# Altium schematic symbol library LCMXO2-1200HC-4TG144.SchLib: 1 symbol
Pins are listed as number, name and electrical type; pins without a type are passive.

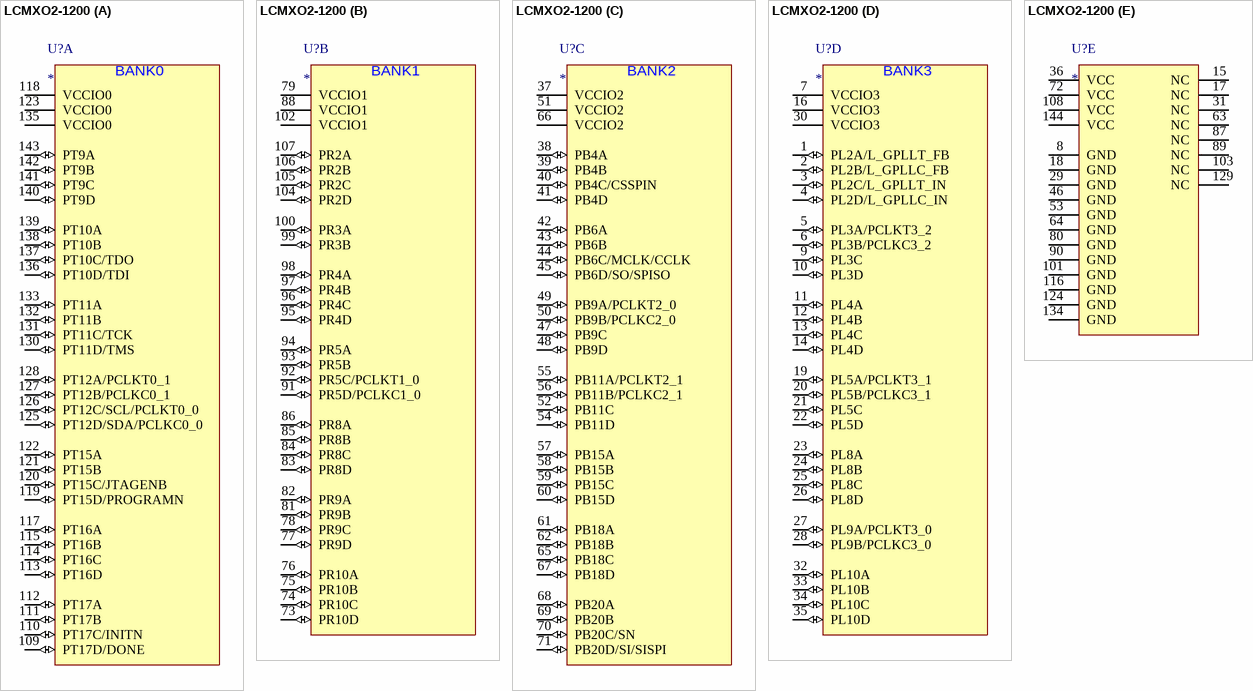
[diagram p0: symbol LCMXO2-1200]

## LCMXO2-1200
designator U?
part A pins: 109 PT17D/DONE (io), 110 PT17C/INITN (io), 111 PT17B (io), 112 PT17A (io), 113 PT16D (io), 114 PT16C (io), 115 PT16B (io), 117 PT16A (io), 118 VCCIO0 (power), 119 PT15D/PROGRAMN (io), 120 PT15C/JTAGENB (io), 121 PT15B (io), 122 PT15A (io), 123 VCCIO0 (power), 125 PT12D/SDA/PCLKC0_0 (io), 126 PT12C/SCL/PCLKT0_0 (io), 127 PT12B/PCLKC0_1 (io), 128 PT12A/PCLKT0_1 (io), 130 PT11D/TMS (io), 131 PT11C/TCK (io), 132 PT11B (io), 133 PT11A (io), 135 VCCIO0 (power), 136 PT10D/TDI (io), 137 PT10C/TDO (io), 138 PT10B (io), 139 PT10A (io), 140 PT9D (io), 141 PT9C (io), 142 PT9B (io), 143 PT9A (io)
part B pins: 73 PR10D (io), 74 PR10C (io), 75 PR10B (io), 76 PR10A (io), 77 PR9D (io), 78 PR9C (io), 79 VCCIO1 (power), 81 PR9B (io), 82 PR9A (io), 83 PR8D (io), 84 PR8C (io), 85 PR8B (io), 86 PR8A (io), 88 VCCIO1 (power), 91 PR5D/PCLKC1_0 (io), 92 PR5C/PCLKT1_0 (io), 93 PR5B (io), 94 PR5A (io), 95 PR4D (io), 96 PR4C (io), 97 PR4B (io), 98 PR4A (io), 99 PR3B (io), 100 PR3A (io), 102 VCCIO1 (power), 104 PR2D (io), 105 PR2C (io), 106 PR2B (io), 107 PR2A (io)
part C pins: 37 VCCIO2 (power), 38 PB4A (io), 39 PB4B (io), 40 PB4C/CSSPIN (io), 41 PB4D (io), 42 PB6A (io), 43 PB6B (io), 44 PB6C/MCLK/CCLK (io), 45 PB6D/SO/SPISO (io), 47 PB9C (io), 48 PB9D (io), 49 PB9A/PCLKT2_0 (io), 50 PB9B/PCLKC2_0 (io), 51 VCCIO2 (power), 52 PB11C (io), 54 PB11D (io), 55 PB11A/PCLKT2_1 (io), 56 PB11B/PCLKC2_1 (io), 57 PB15A (io), 58 PB15B (io), 59 PB15C (io), 60 PB15D (io), 61 PB18A (io), 62 PB18B (io), 65 PB18C (io), 66 VCCIO2 (power), 67 PB18D (io), 68 PB20A (io), 69 PB20B (io), 70 PB20C/SN (io), 71 PB20D/SI/SISPI (io)
part D pins: 1 PL2A/L_GPLLT_FB (io), 2 PL2B/L_GPLLC_FB (io), 3 PL2C/L_GPLLT_IN (io), 4 PL2D/L_GPLLC_IN (io), 5 PL3A/PCLKT3_2 (io), 6 PL3B/PCLKC3_2 (io), 7 VCCIO3 (power), 9 PL3C (io), 10 PL3D (io), 11 PL4A (io), 12 PL4B (io), 13 PL4C (io), 14 PL4D (io), 16 VCCIO3 (power), 19 PL5A/PCLKT3_1 (io), 20 PL5B/PCLKC3_1 (io), 21 PL5C (io), 22 PL5D (io), 23 PL8A (io), 24 PL8B (io), 25 PL8C (io), 26 PL8D (io), 27 PL9A/PCLKT3_0 (io), 28 PL9B/PCLKC3_0 (io), 30 VCCIO3 (power), 32 PL10A (io), 33 PL10B (io), 34 PL10C (io), 35 PL10D (io)
part E pins: 8 GND (power), 15 NC, 17 NC, 18 GND (power), 29 GND (power), 31 NC, 36 VCC (power), 46 GND (power), 53 GND (power), 63 NC, 64 GND (power), 72 VCC (power), 80 GND (power), 87 NC, 89 NC, 90 GND (power), 101 GND (power), 103 NC, 108 VCC (power), 116 GND (power), 124 GND (power), 129 NC, 134 GND (power), 144 VCC (power)
part A text: BANK0
part B text: BANK1
part C text: BANK2
part D text: BANK3